# Altium schematic symbol library RNCE0805BTE10K0.SchLib: 1 symbol
Pins are listed as number, name and electrical type; pins without a type are passive.

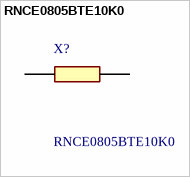
[diagram p0: symbol RNCE0805BTE10K0]

## RNCE0805BTE10K0
designator X?
Thin Film Resistors - SMD 10KOhms 0805 25ppm 1/8W 150V 0.1% Hi Temp/Stability; Manufacturer_Name: Stackpole Electronics, Inc.; Geometry.Height: 0.65mm; Mouser Part Number: *; Mouser Price/Stock: *; Manufacturer_Part_Number: RNCE0805BTE10K0; Datasheet Link: https://www.mouser.sg/datasheet/2/418/9/ENG_DS_9_1773463_9_B-3355380.pdf
footprint RESC2012X65N
pins: 1, 2